# EAGLE library part TLV75801PDRVT (library TLV75801PDRVT)
LDO Voltage Regulators 500MA LDO WITHOUT PG Source: Datasheet <http://www.ti.com/lit/ds/symlink/tlv758p.pdf>
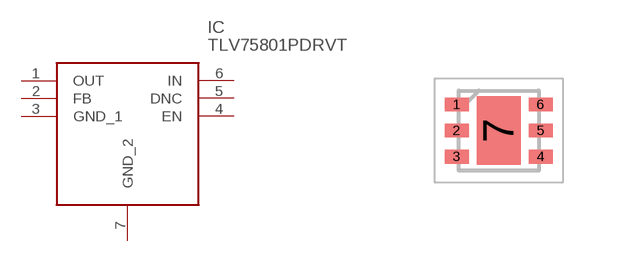
[diagram p0: symbol with the pads of SON65P200X200X80-7N; footprint SON65P200X200X80-7N]

Designator prefix IC

## TLV75801PDRVT (Description: LDO Voltage Regulators 500MA LDO WITHOUT PG; Height: 0.8mm; Manufacturer_Name: Texas Instruments; Manufacturer_Part_Number: TLV75801PDRVT; Mouser_Part_Number: 595-TLV75801PDRVT; Mouser_Price-Stock: https://www.mouser.com/Search/Refine.aspx?Keyword=595-TLV75801PDRVT)  [SON65P200X200X80-7N]
1  OUT
2  FB
3  GND_1
4  EN
5  DNC
6  IN
7  GND_2

## Footprint SON65P200X200X80-7N (pad centres in mm)
TLV75801PDRVT
smd 0.6 x 0.35: 1 -1.05,0.65; 2 -1.05,0; 3 -1.05,-0.65; 4 1.05,-0.65; 5 1.05,0; 6 1.05,0.65
smd 1.1 x 1.7: 7 0,0